# Altium schematic symbol library Sensor_Audio.SchLib: 4 symbols
Pins are listed as number, name and electrical type; pins without a type are passive.

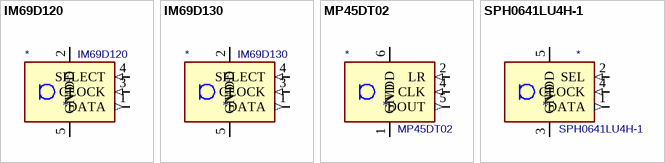
[diagram p0: symbols IM69D120 to SPH0641LU4H-1]

## IM69D120
designator *  value IM69D120
ki_keywords: mems microphone; ki_description: High performance digital XENSIV MEMS microphone, -26 dBFS Sensitivity, LLGA-5; ki_fp_filters: Infineon*PG*LLGA*; Footprint: Sensor_Audio:Infineon_PG-LLGA-5-1; Supplier: https://www.infineon.com/dgdl/Infineon-IM69D120-DS-v01_00-EN.pdf?fileId=5546d462602a9dc801607a0e41a01a2b
footprint Infineon_PG-LLGA-5-1
pins: 1 DATA (out), 2 VDD (power), 3 CLOCK (in), 4 SELECT (in), 5 GND (power)

## IM69D130
designator *  value IM69D130
ki_keywords: mems microphone; ki_description: High performance digital XENSIV MEMS microphone, -36 dBFS Sensitivity, LLGA-5; ki_fp_filters: Infineon*PG*LLGA*; Footprint: Sensor_Audio:Infineon_PG-LLGA-5-1; Supplier: https://www.infineon.com/dgdl/Infineon-IM69D130-DS-v01_00-EN.pdf?fileId=5546d462602a9dc801607a0e46511a2e
footprint Infineon_PG-LLGA-5-1
pins: 1 DATA (out), 2 VDD (power), 3 CLOCK (in), 4 SELECT (in), 5 GND (power)

## MP45DT02
designator *  value MP45DT02
ki_keywords: MEMS Microphone; ki_description: MEMS Omnidirectional Digital Microphone, HLGA-6; ki_fp_filters: ST*HLGA*3.76x4.72mm*P1.65mm*; Footprint: Sensor_Audio:ST_HLGA-6_3.76x4.72mm_P1.65mm; Supplier: http://www.st.com/st-web-ui/static/active/en/resource/technical/document/datasheet/DM00025467.pdf
footprint ST_HLGA-6_3.76x4.72mm_P1.65mm
pins: 1 GND (power), 2 LR (in), 3 GND hidden, 4 CLK (in), 5 DOUT (out), 6 VDD (power)

## SPH0641LU4H-1
designator *  value SPH0641LU4H-1
ki_keywords: Microphone MEMS; ki_description: Digital MEMS Microphone, LGA-5; ki_fp_filters: Knowles*LGA*3.5x2.65mm*; Footprint: Sensor_Audio:Knowles_LGA-5_3.5x2.65mm; Supplier: https://www.knowles.com/docs/default-source/model-downloads/sph0641lu4h-1-revb.pdf
footprint Knowles_LGA-5_3.5x2.65mm
pins: 1 DATA (out), 2 SEL (in), 3 GND (power), 4 CLOCK (in), 5 VDD (power)